# EAGLE library part SA18-11 (library Kingbright)
Display 7 segmenti 56,9 mm anodo comune
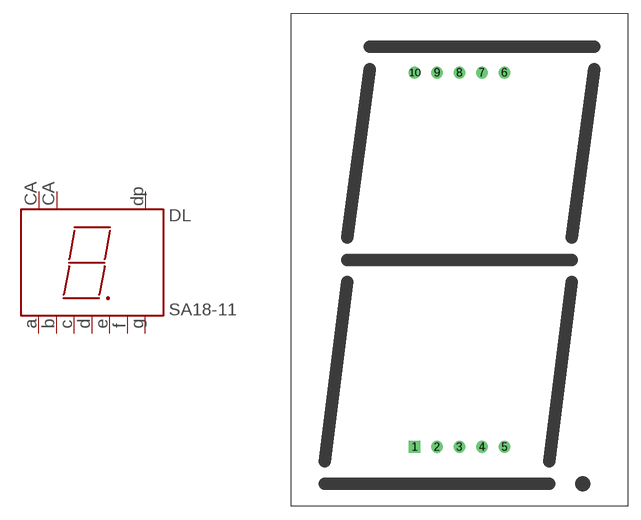
[diagram p2: symbol with the pads of SA18-11; footprint SA18-11]

Designator prefix DL

## SA18-11  [SA18-11]
1  CA  pas
2  E  pas
3  D  pas
4  C  pas
5  CA  pas
6  B  pas
7  A  pas
8  DP  pas
9  F  pas
10  G  pas

## Footprint SA18-11 (pad centres in mm)
drill 0.813 square: 1 -5.08,-21.209
drill 0.813 round: 2 -2.54,-21.209; 3 0,-21.209; 4 2.54,-21.209; 5 5.08,-21.209; 6 5.08,21.209; 7 2.54,21.209; 8 0,21.209; 9 -2.54,21.209; 10 -5.08,21.209